# Altium footprint library CAP_1206.PcbLib: 1 footprints
Each footprint in its own frame and in the unit in brackets; x right, y up, seen from the top. Pads: shape width x height; smd on the part's side, far side on the other; paste and mask are expansions set on the pad; w line width, h text height; cw(c..) or ccw(c..) is an arc to the next point about the centre after c.
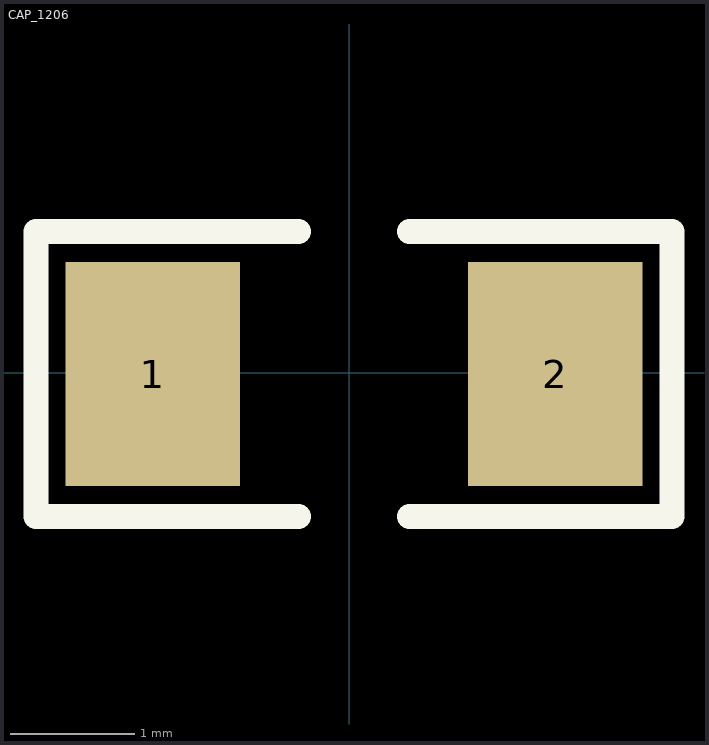
[diagram p0: the footprint, top view; thin cyan lines are the x and y axes]

## CAP_1206 [mm]
pads (2):
  rect 1.4x1.8 smd: 1(-1.575,-0.01) 2(1.651,-0.01)
Top Overlay:
  lines w0.2: -0.407,-1.153 -2.515,-1.153 -2.515,1.133 -0.407,1.133 ; 0.482,-1.153 2.591,-1.153 2.591,1.133 0.482,1.133
3D body "CAP_1206.STEP": height 1.61, standoff 0.01, extent -1.499,-0.9 1.701,0.88